# Altium schematic symbol library CON6X2.SchLib: 1 symbol
Pins are listed as number, name and electrical type; pins without a type are passive.

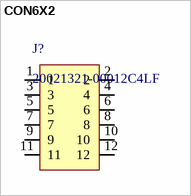
[diagram p0: symbol CON6X2]

## CON6X2
designator J?, comment 20021321-00012C4LF
PDF: http://portal.fciconnect.com/Comergent//fci/drawing/20021321.pdf; BUY_LINK: http://www.digikey.com/product-detail/en/20021321-00012C4LF/609-3707-1-ND/2209153; PRICE: 1.15000; ID: 20021321-00012C4LF
footprint 20021321-00012C4LF
pins: 1, 2, 3, 4, 5, 6, 7, 8, 9, 10, 11, 12